# Altium schematic symbol library library_of_logic_symbols.SchLib: 6 symbols
Pins are listed as number, name and electrical type; pins without a type are passive.

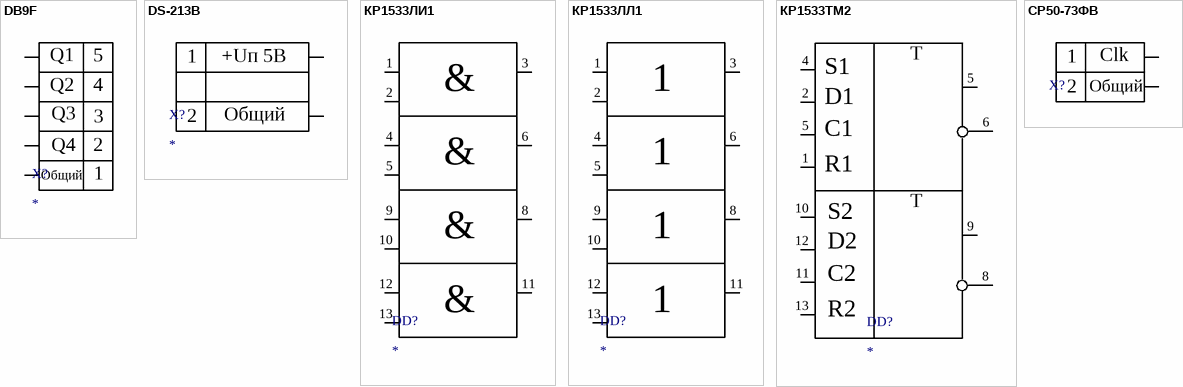
[diagram p0: symbols DB9F to СР50-73ФВ]

## DB9F
designator X?
pins: 14, 14, 14, 14, 14
text: Q1; 5; Q2; 4; Q3; 3; Q4; 2; Общий; 1

## DS-213B
designator X?
pins: 14, 14
text: 1; +Uп 5В; Общий; 2

## КР1533ЛИ1
designator DD?
pins: 1 15, 2 16, 3 17, 4 18, 5 19, 6 20, 8 22, 9 23, 10, 11, 12, 13
text: &

## КР1533ЛЛ1
designator DD?
pins: 1 15, 2 16, 3 17, 4 18, 5 19, 6 20, 8 22, 9 23, 10, 11, 12, 13

## КР1533ТМ2
designator DD?
pins: 1 6, 2 4, 4 3, 5 Q, 5, 6 not Q, 8 not Q, 9 Q, 10 3, 11 5, 12 4, 13 6
text: T; S1; D1; C1; R1; S2; D2; C2; R2

## СР50-73ФВ
designator X?  (value not drawn)
pins: 14, 14
text: Clk; 1; Общий; 2